# Altium schematic symbol library AOZ2255EQI-30.SchLib: 1 symbol
Pins are listed as number, name and electrical type; pins without a type are passive.

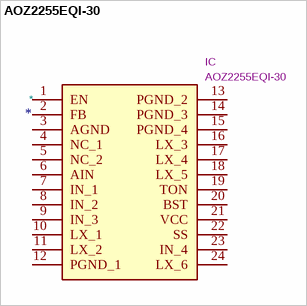
[diagram p0: symbol AOZ2255EQI-30]

## AOZ2255EQI-30
designator *  value AOZ2255EQI-30  Reference: IC
Manufacturer_Name: Alpha & Omega Semiconductors; ki_description: Synchronous DC to DC Buck Regulator; Footprint: AOZ2255EQI30; Datasheet: http://www.aosmd.com/res/data_sheets/AOZ2255EQI-30.pdf; Height: 1.05; Manufacturer_Part_Number: AOZ2255EQI-30; Arrow Part Number: AOZ2255EQI-30; Arrow Price/Stock: https://www.arrow.com/en/products/aoz2255eqi-30/alpha-and-omega-semiconductor
pins: 1 EN, 2 FB, 3 AGND, 4 NC_1, 5 NC_2, 6 AIN, 7 IN_1, 8 IN_2, 9 IN_3, 10 LX_1, 11 LX_2, 12 PGND_1, 13 PGND_2, 14 PGND_3, 15 PGND_4, 16 LX_3, 17 LX_4, 18 LX_5, 19 TON, 20 BST, 21 VCC, 22 SS, 23 IN_4, 24 LX_6